# Altium integrated library PMIC-XC6206P122MR_SOT23_.IntLib: 1 symbol
Pins are listed as number, name and electrical type; pins without a type are passive.

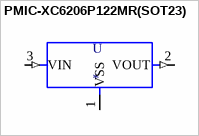
[diagram p0: symbol PMIC-XC6206P122MR(SOT23)]

## PMIC-XC6206P122MR(SOT23)
designator U
Linear Voltage Regulator IC Output; MF: Torex; MP: XC6206P122MR; Value: *; Package: None; Price: None; Availability: Unavailable; SnapEDA_Link: https://www.snapeda.com/parts/XC6206P122MR/Torex/view-part/105791/?ref=snap
footprint SOT-23
pins: 1 VSS (power), 2 VOUT (out), 3 VIN (in)